# EAGLE library part 653112131822 (library Wire-to-Board)
WR-WTB 1.25mm SMT Male Horizontal Shrouded Header, 12 Pins=>Code : Con_WTB_1.25_PCB_SMT_653112131822 <http://katalog.we-online.de/media/thumbs2/eican/thb_Con_WTB_1.25_PCB_SMT_6531xx131822_pf2.jpg> Details see: http://katalog.we-online.de/en/em/653_1xx_131_822 Created 2014-06-06, Karrer Zheng 2014 (C) Würth Elektronik
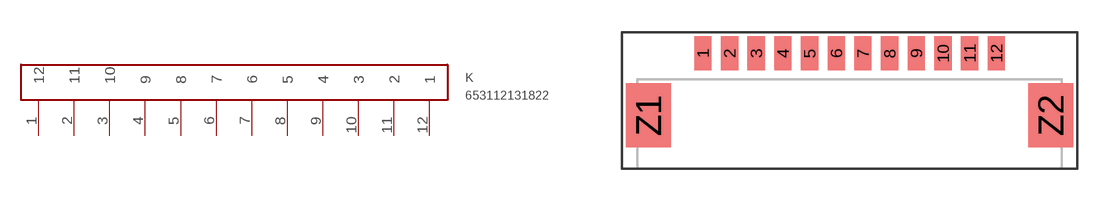
[diagram p69: symbol with the pads of 653112131822; footprint 653112131822]

Designator prefix K

## 653112131822  [653112131822]
1  12
2  11
3  10
4  9
5  8
6  7
7  6
8  5
9  4
10  3
11  2
12  1

## Footprint 653112131822 (pad centres in mm)
WR-WTB 1.25mm SMT Male Horizontal Shrouded Header, 12 Pins
smd 0.81 x 1.6: 1 -0.625,0; 2 0.625,0; 3 1.875,0; 4 3.125,0; 5 4.375,0; 6 5.625,0; 7 6.875,0; 8 8.125,0; 9 9.375,0; 10 10.625,0; 11 11.875,0; 12 13.125,0
smd 2.1 x 3: Z1 -3.175,-2.9; Z2 15.675,-2.9